# Altium footprint library OSCCC205X120X60L59X60N.PcbLib: 1 footprints
Each footprint in its own frame and in the unit in brackets; x right, y up, seen from the top. Pads: shape width x height; smd on the part's side, far side on the other; paste and mask are expansions set on the pad; w line width, h text height; cw(c..) or ccw(c..) is an arc to the next point about the centre after c.
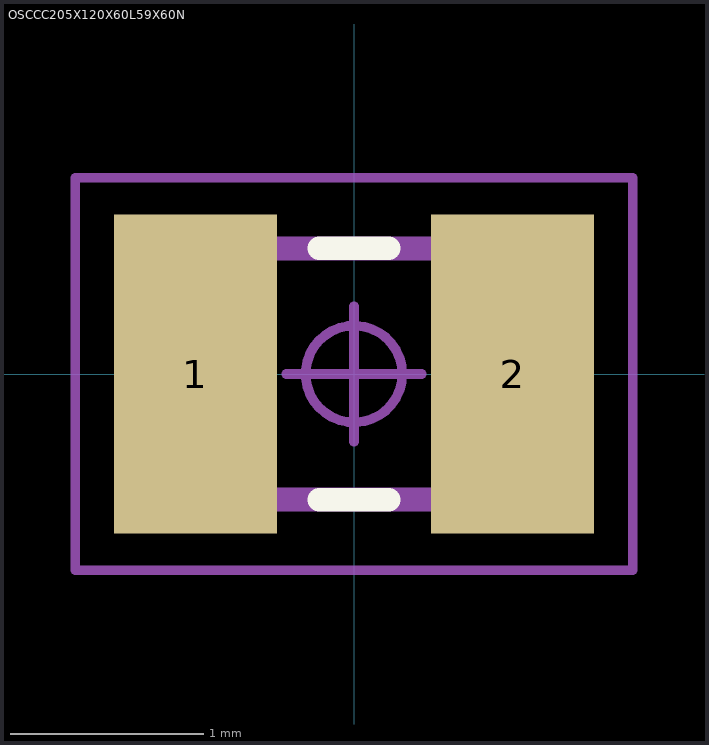
[diagram p0: the footprint, top view; thin cyan lines are the x and y axes]

## OSCCC205X120X60L59X60N [mm] "Oscillator, Corner Concave; 2.05 mm L X 1.20 mm W X 0.60 mm H Body"
height 0.6
pads (2):
  rect 0.84x1.65 smd: 1(-0.819,0) 2(0.819,0)
Top Overlay:
  lines w0.12: -0.18,-0.65 0.179,-0.65 ; -0.179,0.65 0.18,0.65
Mechanical 3:
  lines w0.12: -1.075,-0.322 -1.075,0.65 1.075,0.65 1.075,-0.65 -0.747,-0.65 -1.075,-0.322
Mechanical 5:
  lines w0.025: -1.025,-0.6 -1.025,-0.005 -0.425,-0.005 -0.425,-0.6 -1.025,-0.6 ; -1.025,-0.6 1.025,-0.6 1.025,0.6 -1.025,0.6 -1.025,-0.6 ; -1.025,0.005 -1.025,0.6 -0.425,0.6 -0.425,0.005 -1.025,0.005 ; 0.425,-0.6 0.425,-0.005 1.025,-0.005 1.025,-0.6 0.425,-0.6 ; 0.425,0.005 0.425,0.6 1.025,0.6 1.025,0.005 0.425,0.005
Mechanical 7:
  circle w0.05: c0,0 r0.25
  lines w0.05: -0.35,0 0.35,0 ; 0,-0.35 0,0.35 ; -1.439,-1.014 1.439,-1.014 1.439,1.014 -1.439,1.014 -1.439,-1.014
Mechanical 9:
  text "'.Designator'" at -5.563,-0.271 h1.02
3D body "OSCCC205X120X60L59X60.STEP": height 0.6, standoff 0, extent -1.025,-0.6 1.025,0.6
3D body: height 23.4, standoff -5, extent -1.439,-1.014 1.439,1.014